# EAGLE library part OPT2-3120XXX (library Bauteile)
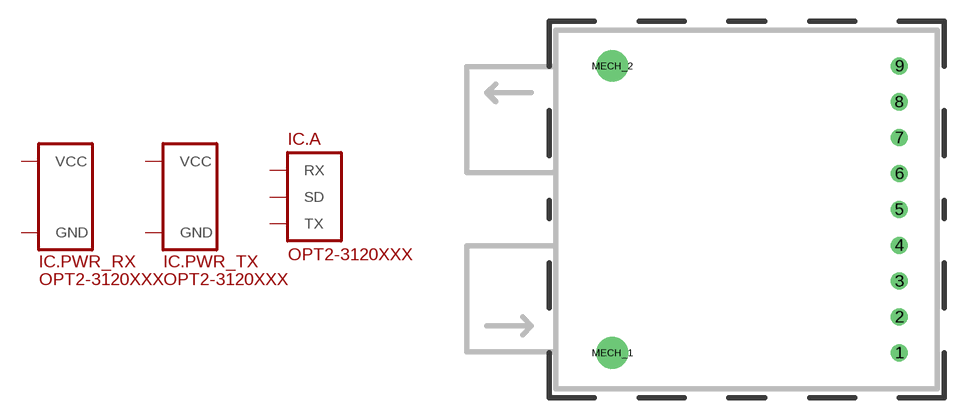
[diagram p213: symbol with the pads of OPT2-3120XFXR; footprint OPT2-3120XFXR]

Designator prefix IC; gates .PWR_RX=SUPPLY_VCC/GND .PWR_TX=SUPPLY_VCC/GND .A=OPT2-3120XXX

## OPT2-3120XXX(FC)  [OPT2-3120XFXR]
1  .PWR_RX:GND
2  .A:RX
4  .A:SD
5  .PWR_RX:VCC
6  .PWR_TX:VCC
8  .A:TX
9  .PWR_TX:GND

## Footprint OPT2-3120XFXR (pad centres in mm)
drill 0.7: 1 20.32,-10.16; 2 20.32,-7.62; 3 20.32,-5.08; 4 20.32,-2.54; 5 20.32,0; 6 20.32,2.54; 7 20.32,5.08; 8 20.32,7.62; 9 20.32,10.16
drill 1.5: MECH_1 0,-10.16; MECH_2 0,10.16